# Altium integrated library Maxim Analog Filters.IntLib: 555 symbols (part 17 of 26)
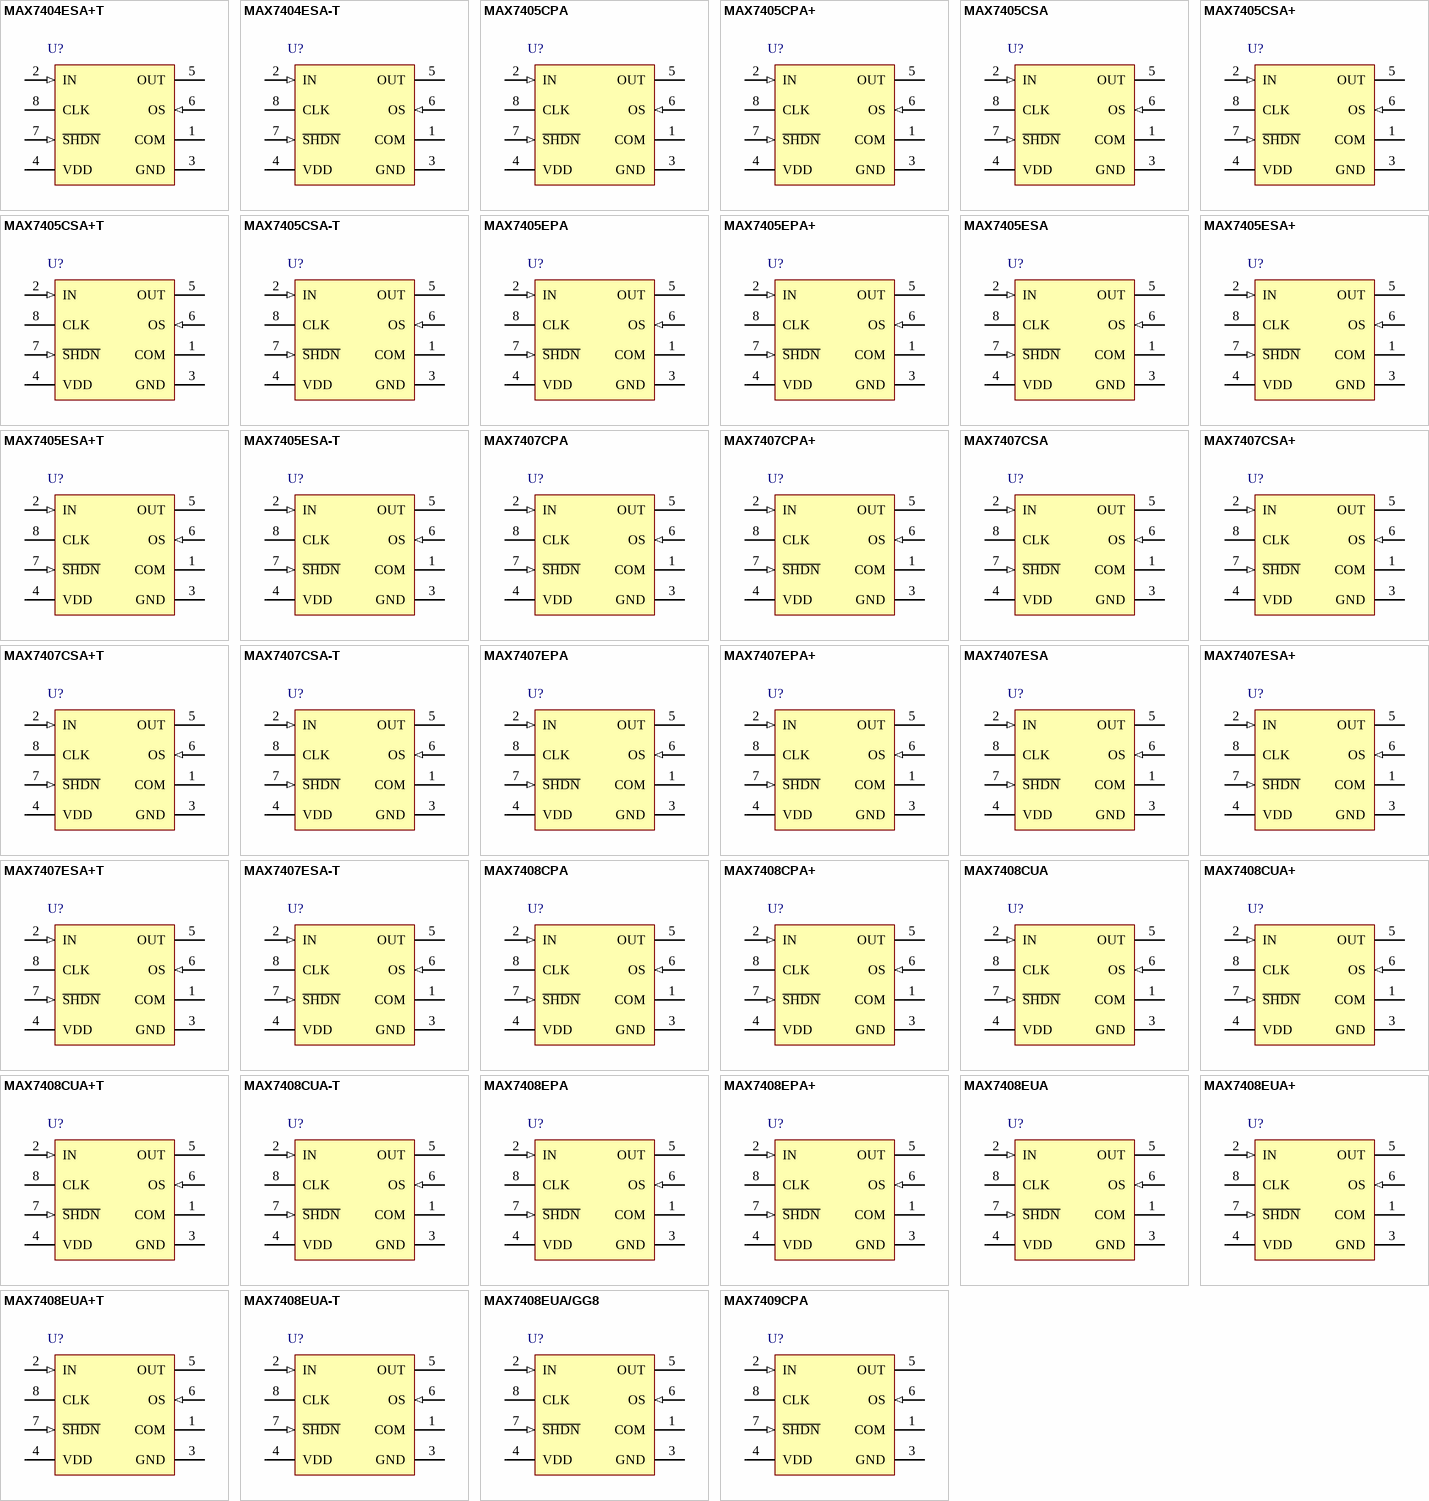
[diagram p33: symbols MAX7404ESA+T to MAX7409CPA]

## MAX7405ESA
designator U?
8th-Order Switched Capacitor Lowpass Filter, Bessel, 3 V, -40 to 85 degC, 8-Pin SOIC (S8-5); Generic Part Number: MAX7405; PartNumber: MAX7405ESA; Filter Sections: 1; Order Per Filter Section: 8; Program Method: Clock; DatasheetVersion: Rev. 1; PackageVersion: Rev. D, 10/2012; PackageReference: S8-5; PackageDescription: 8-Pin Small-Outline IC, Narrow (0.15in) (S8-5), Body 4.90 x 3.90 mm, Pitch 1.27 mm; Supplier 1: Mouser; Supplier Part Number 1: N/A; Filter Characteristic: Bessel; Filter Class: Switched Cap; Filter Type: Lowpass; Mounting Technology: Surface Mount; Code_JEDEC: MS012; ComponentLink1Description: Manufacturer URL; ComponentLink1URL: http://www.maximintegrated.com/; ComponentLink2Description: Datasheet; ComponentLink2URL: http://datasheets.maximintegrated.com/en/ds/MAX7401-MAX7405.pdf; ComponentLink3Description: Package Specification; ComponentLink3URL: http://pdfserv.maximintegrated.com/package_dwgs/21-0041.PDF
footprint MAXM-S8-5_N (SOIC, 8-Leads, Body 4.9x3.9mm, Pitch 1.27mm, IPC Medium Density)
footprint MAXM-S8-5_L (SOIC, 8-Leads, Body 4.9x3.9mm, Pitch 1.27mm, IPC High Density)
footprint MAXM-S8-5_M (SOIC, 8-Leads, Body 4.9x3.9mm, Pitch 1.27mm, IPC Low Density)
pins: 1 COM "Common Input. Biased internally at midsupply. Bypass externally to GND with a 0.1uF capacitor. To override internal biasing, drive with an external supply.", 2 IN (in) "Filter Input", 3 GND (power) "Ground", 4 VDD (power) "Positive Supply Input: +5V for MAX7400/MAX7403, +3V for MAX7404/MAX7407", 5 OUT (hiz) "Filter Output", 6 OS (in) "Offset Adjust Input. To adjust output offset, bias OS externally. Connect OS to COM if no offset adjustment is needed. Refer to Offset and Common-Mode Input Adjustment section.", 7 ~{SHDN} (in) "Shutdown Input. Drive low to enable shutdown mode; drive high or connect to VDD for normal operation.", 8 CLK "Clock Input. To override the internal oscillator, connect to an external clock; otherwise, connect an external capacitor (COSC) from CLK to GND to set the internal oscillator frequency."

## MAX7405ESA+
designator U?
8th-Order Switched Capacitor Lowpass Filter, Bessel, 3 V, -40 to 85 degC, 8-Pin SOIC (S8+5), Pb-Free; Generic Part Number: MAX7405; PartNumber: MAX7405ESA+; Filter Sections: 1; Order Per Filter Section: 8; Program Method: Clock; DatasheetVersion: Rev. 1; PackageVersion: Rev. D, 10/2012; PackageReference: S8+5; PackageDescription: 8-Pin Small-Outline IC, Narrow (0.15in) (S8+5), Body 4.90 x 3.90 mm, Pitch 1.27 mm; Supplier 1: Digi-Key; Supplier Part Number 1: MAX7405ESA+-ND; Supplier 2: Mouser; Supplier Part Number 2: 700-MAX7405ESA; Filter Characteristic: Bessel; Filter Class: Switched Cap; Filter Type: Lowpass; RoHS: Pb-Free; Mounting Technology: Surface Mount; Code_JEDEC: MS012; ComponentLink1Description: Manufacturer URL; ComponentLink1URL: http://www.maximintegrated.com/; ComponentLink2Description: Datasheet; ComponentLink2URL: http://datasheets.maximintegrated.com/en/ds/MAX7401-MAX7405.pdf; ComponentLink3Description: Package Specification; ComponentLink3URL: http://pdfserv.maximintegrated.com/package_dwgs/21-0041.PDF
footprint MAXM-S8+5_N (SOIC, 8-Leads, Body 4.90x3.90mm, Pitch 1.27mm, IPC Medium Density)
footprint MAXM-S8+5_L (SOIC, 8-Leads, Body 4.90x3.90mm, Pitch 1.27mm, IPC High Density)
footprint MAXM-S8+5_M (SOIC, 8-Leads, Body 4.90x3.90mm, Pitch 1.27mm, IPC Low Density)
pins: 1 COM "Common Input. Biased internally at midsupply. Bypass externally to GND with a 0.1uF capacitor. To override internal biasing, drive with an external supply.", 2 IN (in) "Filter Input", 3 GND (power) "Ground", 4 VDD (power) "Positive Supply Input: +5V for MAX7400/MAX7403, +3V for MAX7404/MAX7407", 5 OUT (hiz) "Filter Output", 6 OS (in) "Offset Adjust Input. To adjust output offset, bias OS externally. Connect OS to COM if no offset adjustment is needed. Refer to Offset and Common-Mode Input Adjustment section.", 7 ~{SHDN} (in) "Shutdown Input. Drive low to enable shutdown mode; drive high or connect to VDD for normal operation.", 8 CLK "Clock Input. To override the internal oscillator, connect to an external clock; otherwise, connect an external capacitor (COSC) from CLK to GND to set the internal oscillator frequency."

## MAX7405ESA+T
designator U?
8th-Order Switched Capacitor Lowpass Filter, Bessel, 3 V, -40 to 85 degC, 8-Pin SOIC (S8+5), Pb-Free, Tape and Reel; Generic Part Number: MAX7405; PartNumber: MAX7405ESA+T; Filter Sections: 1; Order Per Filter Section: 8; Program Method: Clock; DatasheetVersion: Rev. 1; PackageVersion: Rev. D, 10/2012; PackageReference: S8+5; PackageDescription: 8-Pin Small-Outline IC, Narrow (0.15in) (S8+5), Body 4.90 x 3.90 mm, Pitch 1.27 mm; Supplier 1: Digi-Key; Supplier Part Number 1: MAX7405ESA+T-ND; Supplier 2: Mouser; Supplier Part Number 2: 700-MAX7405ESAT; Filter Characteristic: Bessel; Filter Class: Switched Cap; Filter Type: Lowpass; Packing: Tape and Reel; RoHS: Pb-Free; Mounting Technology: Surface Mount; Code_JEDEC: MS012; ComponentLink1Description: Manufacturer URL; ComponentLink1URL: http://www.maximintegrated.com/; ComponentLink2Description: Datasheet; ComponentLink2URL: http://datasheets.maximintegrated.com/en/ds/MAX7401-MAX7405.pdf; ComponentLink3Description: Package Specification; ComponentLink3URL: http://pdfserv.maximintegrated.com/package_dwgs/21-0041.PDF
footprint MAXM-S8+5_N (SOIC, 8-Leads, Body 4.90x3.90mm, Pitch 1.27mm, IPC Medium Density)
footprint MAXM-S8+5_L (SOIC, 8-Leads, Body 4.90x3.90mm, Pitch 1.27mm, IPC High Density)
footprint MAXM-S8+5_M (SOIC, 8-Leads, Body 4.90x3.90mm, Pitch 1.27mm, IPC Low Density)
pins: 1 COM "Common Input. Biased internally at midsupply. Bypass externally to GND with a 0.1uF capacitor. To override internal biasing, drive with an external supply.", 2 IN (in) "Filter Input", 3 GND (power) "Ground", 4 VDD (power) "Positive Supply Input: +5V for MAX7400/MAX7403, +3V for MAX7404/MAX7407", 5 OUT (hiz) "Filter Output", 6 OS (in) "Offset Adjust Input. To adjust output offset, bias OS externally. Connect OS to COM if no offset adjustment is needed. Refer to Offset and Common-Mode Input Adjustment section.", 7 ~{SHDN} (in) "Shutdown Input. Drive low to enable shutdown mode; drive high or connect to VDD for normal operation.", 8 CLK "Clock Input. To override the internal oscillator, connect to an external clock; otherwise, connect an external capacitor (COSC) from CLK to GND to set the internal oscillator frequency."

## MAX7405ESA-T
designator U?
8th-Order Switched Capacitor Lowpass Filter, Bessel, 3 V, -40 to 85 degC, 8-Pin SOIC (S8-5), Tape and Reel; Generic Part Number: MAX7405; PartNumber: MAX7405ESA-T; Filter Sections: 1; Order Per Filter Section: 8; Program Method: Clock; DatasheetVersion: Rev. 1; PackageVersion: Rev. D, 10/2012; PackageReference: S8-5; PackageDescription: 8-Pin Small-Outline IC, Narrow (0.15in) (S8-5), Body 4.90 x 3.90 mm, Pitch 1.27 mm; Supplier 1: Mouser; Supplier Part Number 1: N/A; Filter Characteristic: Bessel; Filter Class: Switched Cap; Filter Type: Lowpass; Packing: Tape and Reel; Mounting Technology: Surface Mount; Code_JEDEC: MS012; ComponentLink1Description: Manufacturer URL; ComponentLink1URL: http://www.maximintegrated.com/; ComponentLink2Description: Datasheet; ComponentLink2URL: http://datasheets.maximintegrated.com/en/ds/MAX7401-MAX7405.pdf; ComponentLink3Description: Package Specification; ComponentLink3URL: http://pdfserv.maximintegrated.com/package_dwgs/21-0041.PDF
footprint MAXM-S8-5_N (SOIC, 8-Leads, Body 4.9x3.9mm, Pitch 1.27mm, IPC Medium Density)
footprint MAXM-S8-5_L (SOIC, 8-Leads, Body 4.9x3.9mm, Pitch 1.27mm, IPC High Density)
footprint MAXM-S8-5_M (SOIC, 8-Leads, Body 4.9x3.9mm, Pitch 1.27mm, IPC Low Density)
pins: 1 COM "Common Input. Biased internally at midsupply. Bypass externally to GND with a 0.1uF capacitor. To override internal biasing, drive with an external supply.", 2 IN (in) "Filter Input", 3 GND (power) "Ground", 4 VDD (power) "Positive Supply Input: +5V for MAX7400/MAX7403, +3V for MAX7404/MAX7407", 5 OUT (hiz) "Filter Output", 6 OS (in) "Offset Adjust Input. To adjust output offset, bias OS externally. Connect OS to COM if no offset adjustment is needed. Refer to Offset and Common-Mode Input Adjustment section.", 7 ~{SHDN} (in) "Shutdown Input. Drive low to enable shutdown mode; drive high or connect to VDD for normal operation.", 8 CLK "Clock Input. To override the internal oscillator, connect to an external clock; otherwise, connect an external capacitor (COSC) from CLK to GND to set the internal oscillator frequency."

## MAX7407CPA
designator U?
8th-Order Switched Capacitor Lowpass Filter, Elliptic, 3 V, 0 to 70 degC, 8-Pin DIP (P8-2); Generic Part Number: MAX7407; PartNumber: MAX7407CPA; Filter Sections: 1; Order Per Filter Section: 8; Program Method: Clock; DatasheetVersion: Rev. 2; PackageVersion: Rev. E, 04/2011; PackageReference: P8-2; PackageDescription: 8-Pin Plastic Dual-In-Line, Narrow (0.3in) (P8-2), Body 9.375 x 6.985 mm, Pitch 2.54 mm; Supplier 1: Mouser; Supplier Part Number 1: N/A; Filter Characteristic: Elliptic; Filter Class: Switched Cap; Filter Type: Lowpass; Mounting Technology: Through Hole; Code_JEDEC: MS001-XX; ComponentLink1Description: Manufacturer URL; ComponentLink1URL: http://www.maximintegrated.com/; ComponentLink2Description: Datasheet; ComponentLink2URL: http://datasheets.maximintegrated.com/en/ds/MAX7400-MAX7407.pdf; ComponentLink3Description: Package Specification; ComponentLink3URL: http://pdfserv.maximintegrated.com/package_dwgs/21-0043.PDF
footprint MAXM-P8-2 (DIP, 8-Leads, Body 9.375x6.985mm, Pitch 2.54mm)
pins: 1 COM "Common Input. Biased internally at midsupply. Bypass externally to GND with a 0.1uF capacitor. To override internal biasing, drive with an external supply.", 2 IN (in) "Filter Input", 3 GND (power) "Ground", 4 VDD (power) "Positive Supply Input: +5V for MAX7400/MAX7403, +3V for MAX7404/MAX7407", 5 OUT (hiz) "Filter Output", 6 OS (in) "Offset Adjust Input. To adjust output offset, bias OS externally. Connect OS to COM if no offset adjustment is needed. Refer to Offset and Common-Mode Input Adjustment section.", 7 ~{SHDN} (in) "Shutdown Input. Drive low to enable shutdown mode; drive high or connect to VDD for normal operation.", 8 CLK "Clock Input. To override the internal oscillator, connect to an external clock; otherwise, connect an external capacitor (COSC) from CLK to GND to set the internal oscillator frequency."

## MAX7407CPA+
designator U?
8th-Order Switched Capacitor Lowpass Filter, Elliptic, 3 V, 0 to 70 degC, 8-Pin DIP (P8+2), Pb-Free; Generic Part Number: MAX7407; PartNumber: MAX7407CPA+; Filter Sections: 1; Order Per Filter Section: 8; Program Method: Clock; DatasheetVersion: Rev. 2; PackageVersion: Rev. E, 04/2011; PackageReference: P8+2; PackageDescription: 8-Pin Plastic Dual-In-Line, Narrow (0.3in) (P8+2), Body 9.375 x 6.985 mm, Pitch 2.54 mm; Supplier 1: Digi-Key; Supplier Part Number 1: MAX7407CPA+-ND; Supplier 2: Mouser; Supplier Part Number 2: 700-MAX7407CPA; Filter Characteristic: Elliptic; Filter Class: Switched Cap; Filter Type: Lowpass; RoHS: Pb-Free; Mounting Technology: Through Hole; Code_JEDEC: MS001-XX; ComponentLink1Description: Manufacturer URL; ComponentLink1URL: http://www.maximintegrated.com/; ComponentLink2Description: Datasheet; ComponentLink2URL: http://datasheets.maximintegrated.com/en/ds/MAX7400-MAX7407.pdf; ComponentLink3Description: Package Specification; ComponentLink3URL: http://pdfserv.maximintegrated.com/package_dwgs/21-0043.PDF
footprint MAXM-P8+2 (DIP, 8-Leads, Body 9.375x6.985mm, Pitch 2.54mm)
pins: 1 COM "Common Input. Biased internally at midsupply. Bypass externally to GND with a 0.1uF capacitor. To override internal biasing, drive with an external supply.", 2 IN (in) "Filter Input", 3 GND (power) "Ground", 4 VDD (power) "Positive Supply Input: +5V for MAX7400/MAX7403, +3V for MAX7404/MAX7407", 5 OUT (hiz) "Filter Output", 6 OS (in) "Offset Adjust Input. To adjust output offset, bias OS externally. Connect OS to COM if no offset adjustment is needed. Refer to Offset and Common-Mode Input Adjustment section.", 7 ~{SHDN} (in) "Shutdown Input. Drive low to enable shutdown mode; drive high or connect to VDD for normal operation.", 8 CLK "Clock Input. To override the internal oscillator, connect to an external clock; otherwise, connect an external capacitor (COSC) from CLK to GND to set the internal oscillator frequency."

## MAX7407CSA
designator U?
8th-Order Switched Capacitor Lowpass Filter, Elliptic, 3 V, 0 to 70 degC, 8-Pin SOIC (S8-5); Generic Part Number: MAX7407; PartNumber: MAX7407CSA; Filter Sections: 1; Order Per Filter Section: 8; Program Method: Clock; DatasheetVersion: Rev. 2; PackageVersion: Rev. D, 10/2012; PackageReference: S8-5; PackageDescription: 8-Pin Small-Outline IC, Narrow (0.15in) (S8-5), Body 4.90 x 3.90 mm, Pitch 1.27 mm; Supplier 1: Mouser; Supplier Part Number 1: N/A; Filter Characteristic: Elliptic; Filter Class: Switched Cap; Filter Type: Lowpass; Mounting Technology: Surface Mount; Code_JEDEC: MS012; ComponentLink1Description: Manufacturer URL; ComponentLink1URL: http://www.maximintegrated.com/; ComponentLink2Description: Datasheet; ComponentLink2URL: http://datasheets.maximintegrated.com/en/ds/MAX7400-MAX7407.pdf; ComponentLink3Description: Package Specification; ComponentLink3URL: http://pdfserv.maximintegrated.com/package_dwgs/21-0041.PDF
footprint MAXM-S8-5_N (SOIC, 8-Leads, Body 4.9x3.9mm, Pitch 1.27mm, IPC Medium Density)
footprint MAXM-S8-5_L (SOIC, 8-Leads, Body 4.9x3.9mm, Pitch 1.27mm, IPC High Density)
footprint MAXM-S8-5_M (SOIC, 8-Leads, Body 4.9x3.9mm, Pitch 1.27mm, IPC Low Density)
pins: 1 COM "Common Input. Biased internally at midsupply. Bypass externally to GND with a 0.1uF capacitor. To override internal biasing, drive with an external supply.", 2 IN (in) "Filter Input", 3 GND (power) "Ground", 4 VDD (power) "Positive Supply Input: +5V for MAX7400/MAX7403, +3V for MAX7404/MAX7407", 5 OUT (hiz) "Filter Output", 6 OS (in) "Offset Adjust Input. To adjust output offset, bias OS externally. Connect OS to COM if no offset adjustment is needed. Refer to Offset and Common-Mode Input Adjustment section.", 7 ~{SHDN} (in) "Shutdown Input. Drive low to enable shutdown mode; drive high or connect to VDD for normal operation.", 8 CLK "Clock Input. To override the internal oscillator, connect to an external clock; otherwise, connect an external capacitor (COSC) from CLK to GND to set the internal oscillator frequency."

## MAX7407CSA+
designator U?
8th-Order Switched Capacitor Lowpass Filter, Elliptic, 3 V, 0 to 70 degC, 8-Pin SOIC (S8+5), Pb-Free; Generic Part Number: MAX7407; PartNumber: MAX7407CSA+; Filter Sections: 1; Order Per Filter Section: 8; Program Method: Clock; DatasheetVersion: Rev. 2; PackageVersion: Rev. D, 10/2012; PackageReference: S8+5; PackageDescription: 8-Pin Small-Outline IC, Narrow (0.15in) (S8+5), Body 4.90 x 3.90 mm, Pitch 1.27 mm; Supplier 1: Digi-Key; Supplier Part Number 1: MAX7407CSA+-ND; Supplier 2: Mouser; Supplier Part Number 2: 700-MAX7407CSA; Filter Characteristic: Elliptic; Filter Class: Switched Cap; Filter Type: Lowpass; RoHS: Pb-Free; Mounting Technology: Surface Mount; Code_JEDEC: MS012; ComponentLink1Description: Manufacturer URL; ComponentLink1URL: http://www.maximintegrated.com/; ComponentLink2Description: Datasheet; ComponentLink2URL: http://datasheets.maximintegrated.com/en/ds/MAX7400-MAX7407.pdf; ComponentLink3Description: Package Specification; ComponentLink3URL: http://pdfserv.maximintegrated.com/package_dwgs/21-0041.PDF
footprint MAXM-S8+5_N (SOIC, 8-Leads, Body 4.90x3.90mm, Pitch 1.27mm, IPC Medium Density)
footprint MAXM-S8+5_L (SOIC, 8-Leads, Body 4.90x3.90mm, Pitch 1.27mm, IPC High Density)
footprint MAXM-S8+5_M (SOIC, 8-Leads, Body 4.90x3.90mm, Pitch 1.27mm, IPC Low Density)
pins: 1 COM "Common Input. Biased internally at midsupply. Bypass externally to GND with a 0.1uF capacitor. To override internal biasing, drive with an external supply.", 2 IN (in) "Filter Input", 3 GND (power) "Ground", 4 VDD (power) "Positive Supply Input: +5V for MAX7400/MAX7403, +3V for MAX7404/MAX7407", 5 OUT (hiz) "Filter Output", 6 OS (in) "Offset Adjust Input. To adjust output offset, bias OS externally. Connect OS to COM if no offset adjustment is needed. Refer to Offset and Common-Mode Input Adjustment section.", 7 ~{SHDN} (in) "Shutdown Input. Drive low to enable shutdown mode; drive high or connect to VDD for normal operation.", 8 CLK "Clock Input. To override the internal oscillator, connect to an external clock; otherwise, connect an external capacitor (COSC) from CLK to GND to set the internal oscillator frequency."

## MAX7407CSA+T
designator U?
8th-Order Switched Capacitor Lowpass Filter, Elliptic, 3 V, 0 to 70 degC, 8-Pin SOIC (S8+5), Pb-Free, Tape and Reel; Generic Part Number: MAX7407; PartNumber: MAX7407CSA+T; Filter Sections: 1; Order Per Filter Section: 8; Program Method: Clock; DatasheetVersion: Rev. 2; PackageVersion: Rev. D, 10/2012; PackageReference: S8+5; PackageDescription: 8-Pin Small-Outline IC, Narrow (0.15in) (S8+5), Body 4.90 x 3.90 mm, Pitch 1.27 mm; Supplier 1: Digi-Key; Supplier Part Number 1: MAX7407CSA+T-ND; Supplier 2: Mouser; Supplier Part Number 2: 700-MAX7407CSAT; Filter Characteristic: Elliptic; Filter Class: Switched Cap; Filter Type: Lowpass; Packing: Tape and Reel; RoHS: Pb-Free; Mounting Technology: Surface Mount; Code_JEDEC: MS012; ComponentLink1Description: Manufacturer URL; ComponentLink1URL: http://www.maximintegrated.com/; ComponentLink2Description: Datasheet; ComponentLink2URL: http://datasheets.maximintegrated.com/en/ds/MAX7400-MAX7407.pdf; ComponentLink3Description: Package Specification; ComponentLink3URL: http://pdfserv.maximintegrated.com/package_dwgs/21-0041.PDF
footprint MAXM-S8+5_N (SOIC, 8-Leads, Body 4.90x3.90mm, Pitch 1.27mm, IPC Medium Density)
footprint MAXM-S8+5_L (SOIC, 8-Leads, Body 4.90x3.90mm, Pitch 1.27mm, IPC High Density)
footprint MAXM-S8+5_M (SOIC, 8-Leads, Body 4.90x3.90mm, Pitch 1.27mm, IPC Low Density)
pins: 1 COM "Common Input. Biased internally at midsupply. Bypass externally to GND with a 0.1uF capacitor. To override internal biasing, drive with an external supply.", 2 IN (in) "Filter Input", 3 GND (power) "Ground", 4 VDD (power) "Positive Supply Input: +5V for MAX7400/MAX7403, +3V for MAX7404/MAX7407", 5 OUT (hiz) "Filter Output", 6 OS (in) "Offset Adjust Input. To adjust output offset, bias OS externally. Connect OS to COM if no offset adjustment is needed. Refer to Offset and Common-Mode Input Adjustment section.", 7 ~{SHDN} (in) "Shutdown Input. Drive low to enable shutdown mode; drive high or connect to VDD for normal operation.", 8 CLK "Clock Input. To override the internal oscillator, connect to an external clock; otherwise, connect an external capacitor (COSC) from CLK to GND to set the internal oscillator frequency."

## MAX7407CSA-T
designator U?
8th-Order Switched Capacitor Lowpass Filter, Elliptic, 3 V, 0 to 70 degC, 8-Pin SOIC (S8-5), Tape and Reel; Generic Part Number: MAX7407; PartNumber: MAX7407CSA-T; Filter Sections: 1; Order Per Filter Section: 8; Program Method: Clock; DatasheetVersion: Rev. 2; PackageVersion: Rev. D, 10/2012; PackageReference: S8-5; PackageDescription: 8-Pin Small-Outline IC, Narrow (0.15in) (S8-5), Body 4.90 x 3.90 mm, Pitch 1.27 mm; Supplier 1: Mouser; Supplier Part Number 1: N/A; Filter Characteristic: Elliptic; Filter Class: Switched Cap; Filter Type: Lowpass; Packing: Tape and Reel; Mounting Technology: Surface Mount; Code_JEDEC: MS012; ComponentLink1Description: Manufacturer URL; ComponentLink1URL: http://www.maximintegrated.com/; ComponentLink2Description: Datasheet; ComponentLink2URL: http://datasheets.maximintegrated.com/en/ds/MAX7400-MAX7407.pdf; ComponentLink3Description: Package Specification; ComponentLink3URL: http://pdfserv.maximintegrated.com/package_dwgs/21-0041.PDF
footprint MAXM-S8-5_N (SOIC, 8-Leads, Body 4.9x3.9mm, Pitch 1.27mm, IPC Medium Density)
footprint MAXM-S8-5_L (SOIC, 8-Leads, Body 4.9x3.9mm, Pitch 1.27mm, IPC High Density)
footprint MAXM-S8-5_M (SOIC, 8-Leads, Body 4.9x3.9mm, Pitch 1.27mm, IPC Low Density)
pins: 1 COM "Common Input. Biased internally at midsupply. Bypass externally to GND with a 0.1uF capacitor. To override internal biasing, drive with an external supply.", 2 IN (in) "Filter Input", 3 GND (power) "Ground", 4 VDD (power) "Positive Supply Input: +5V for MAX7400/MAX7403, +3V for MAX7404/MAX7407", 5 OUT (hiz) "Filter Output", 6 OS (in) "Offset Adjust Input. To adjust output offset, bias OS externally. Connect OS to COM if no offset adjustment is needed. Refer to Offset and Common-Mode Input Adjustment section.", 7 ~{SHDN} (in) "Shutdown Input. Drive low to enable shutdown mode; drive high or connect to VDD for normal operation.", 8 CLK "Clock Input. To override the internal oscillator, connect to an external clock; otherwise, connect an external capacitor (COSC) from CLK to GND to set the internal oscillator frequency."

## MAX7407EPA
designator U?
8th-Order Switched Capacitor Lowpass Filter, Elliptic, 3 V, -40 to 85 degC, 8-Pin DIP (P8-2); Generic Part Number: MAX7407; PartNumber: MAX7407EPA; Filter Sections: 1; Order Per Filter Section: 8; Program Method: Clock; DatasheetVersion: Rev. 2; PackageVersion: Rev. E, 04/2011; PackageReference: P8-2; PackageDescription: 8-Pin Plastic Dual-In-Line, Narrow (0.3in) (P8-2), Body 9.375 x 6.985 mm, Pitch 2.54 mm; Supplier 1: Mouser; Supplier Part Number 1: N/A; Filter Characteristic: Elliptic; Filter Class: Switched Cap; Filter Type: Lowpass; Mounting Technology: Through Hole; Code_JEDEC: MS001-XX; ComponentLink1Description: Manufacturer URL; ComponentLink1URL: http://www.maximintegrated.com/; ComponentLink2Description: Datasheet; ComponentLink2URL: http://datasheets.maximintegrated.com/en/ds/MAX7400-MAX7407.pdf; ComponentLink3Description: Package Specification; ComponentLink3URL: http://pdfserv.maximintegrated.com/package_dwgs/21-0043.PDF
footprint MAXM-P8-2 (DIP, 8-Leads, Body 9.375x6.985mm, Pitch 2.54mm)
pins: 1 COM "Common Input. Biased internally at midsupply. Bypass externally to GND with a 0.1uF capacitor. To override internal biasing, drive with an external supply.", 2 IN (in) "Filter Input", 3 GND (power) "Ground", 4 VDD (power) "Positive Supply Input: +5V for MAX7400/MAX7403, +3V for MAX7404/MAX7407", 5 OUT (hiz) "Filter Output", 6 OS (in) "Offset Adjust Input. To adjust output offset, bias OS externally. Connect OS to COM if no offset adjustment is needed. Refer to Offset and Common-Mode Input Adjustment section.", 7 ~{SHDN} (in) "Shutdown Input. Drive low to enable shutdown mode; drive high or connect to VDD for normal operation.", 8 CLK "Clock Input. To override the internal oscillator, connect to an external clock; otherwise, connect an external capacitor (COSC) from CLK to GND to set the internal oscillator frequency."

## MAX7407EPA+
designator U?
8th-Order Switched Capacitor Lowpass Filter, Elliptic, 3 V, -40 to 85 degC, 8-Pin DIP (P8+2), Pb-Free; Generic Part Number: MAX7407; PartNumber: MAX7407EPA+; Filter Sections: 1; Order Per Filter Section: 8; Program Method: Clock; DatasheetVersion: Rev. 2; PackageVersion: Rev. E, 04/2011; PackageReference: P8+2; PackageDescription: 8-Pin Plastic Dual-In-Line, Narrow (0.3in) (P8+2), Body 9.375 x 6.985 mm, Pitch 2.54 mm; Supplier 1: Digi-Key; Supplier Part Number 1: MAX7407EPA+-ND; Supplier 2: Mouser; Supplier Part Number 2: 700-MAX7407EPA; Filter Characteristic: Elliptic; Filter Class: Switched Cap; Filter Type: Lowpass; RoHS: Pb-Free; Mounting Technology: Through Hole; Code_JEDEC: MS001-XX; ComponentLink1Description: Manufacturer URL; ComponentLink1URL: http://www.maximintegrated.com/; ComponentLink2Description: Datasheet; ComponentLink2URL: http://datasheets.maximintegrated.com/en/ds/MAX7400-MAX7407.pdf; ComponentLink3Description: Package Specification; ComponentLink3URL: http://pdfserv.maximintegrated.com/package_dwgs/21-0043.PDF
footprint MAXM-P8+2 (DIP, 8-Leads, Body 9.375x6.985mm, Pitch 2.54mm)
pins: 1 COM "Common Input. Biased internally at midsupply. Bypass externally to GND with a 0.1uF capacitor. To override internal biasing, drive with an external supply.", 2 IN (in) "Filter Input", 3 GND (power) "Ground", 4 VDD (power) "Positive Supply Input: +5V for MAX7400/MAX7403, +3V for MAX7404/MAX7407", 5 OUT (hiz) "Filter Output", 6 OS (in) "Offset Adjust Input. To adjust output offset, bias OS externally. Connect OS to COM if no offset adjustment is needed. Refer to Offset and Common-Mode Input Adjustment section.", 7 ~{SHDN} (in) "Shutdown Input. Drive low to enable shutdown mode; drive high or connect to VDD for normal operation.", 8 CLK "Clock Input. To override the internal oscillator, connect to an external clock; otherwise, connect an external capacitor (COSC) from CLK to GND to set the internal oscillator frequency."

## MAX7407ESA
designator U?
8th-Order Switched Capacitor Lowpass Filter, Elliptic, 3 V, -40 to 85 degC, 8-Pin SOIC (S8-5); Generic Part Number: MAX7407; PartNumber: MAX7407ESA; Filter Sections: 1; Order Per Filter Section: 8; Program Method: Clock; DatasheetVersion: Rev. 2; PackageVersion: Rev. D, 10/2012; PackageReference: S8-5; PackageDescription: 8-Pin Small-Outline IC, Narrow (0.15in) (S8-5), Body 4.90 x 3.90 mm, Pitch 1.27 mm; Supplier 1: Mouser; Supplier Part Number 1: N/A; Filter Characteristic: Elliptic; Filter Class: Switched Cap; Filter Type: Lowpass; Mounting Technology: Surface Mount; Code_JEDEC: MS012; ComponentLink1Description: Manufacturer URL; ComponentLink1URL: http://www.maximintegrated.com/; ComponentLink2Description: Datasheet; ComponentLink2URL: http://datasheets.maximintegrated.com/en/ds/MAX7400-MAX7407.pdf; ComponentLink3Description: Package Specification; ComponentLink3URL: http://pdfserv.maximintegrated.com/package_dwgs/21-0041.PDF
footprint MAXM-S8-5_N (SOIC, 8-Leads, Body 4.9x3.9mm, Pitch 1.27mm, IPC Medium Density)
footprint MAXM-S8-5_L (SOIC, 8-Leads, Body 4.9x3.9mm, Pitch 1.27mm, IPC High Density)
footprint MAXM-S8-5_M (SOIC, 8-Leads, Body 4.9x3.9mm, Pitch 1.27mm, IPC Low Density)
pins: 1 COM "Common Input. Biased internally at midsupply. Bypass externally to GND with a 0.1uF capacitor. To override internal biasing, drive with an external supply.", 2 IN (in) "Filter Input", 3 GND (power) "Ground", 4 VDD (power) "Positive Supply Input: +5V for MAX7400/MAX7403, +3V for MAX7404/MAX7407", 5 OUT (hiz) "Filter Output", 6 OS (in) "Offset Adjust Input. To adjust output offset, bias OS externally. Connect OS to COM if no offset adjustment is needed. Refer to Offset and Common-Mode Input Adjustment section.", 7 ~{SHDN} (in) "Shutdown Input. Drive low to enable shutdown mode; drive high or connect to VDD for normal operation.", 8 CLK "Clock Input. To override the internal oscillator, connect to an external clock; otherwise, connect an external capacitor (COSC) from CLK to GND to set the internal oscillator frequency."

## MAX7407ESA+
designator U?
8th-Order Switched Capacitor Lowpass Filter, Elliptic, 3 V, -40 to 85 degC, 8-Pin SOIC (S8+5), Pb-Free; Generic Part Number: MAX7407; PartNumber: MAX7407ESA+; Filter Sections: 1; Order Per Filter Section: 8; Program Method: Clock; DatasheetVersion: Rev. 2; PackageVersion: Rev. D, 10/2012; PackageReference: S8+5; PackageDescription: 8-Pin Small-Outline IC, Narrow (0.15in) (S8+5), Body 4.90 x 3.90 mm, Pitch 1.27 mm; Supplier 1: Digi-Key; Supplier Part Number 1: MAX7407ESA+-ND; Supplier 2: Farnell; Supplier Part Number 2: 1550458; Supplier 3: Newark; Supplier Part Number 3: 26R6613; Supplier 4: Mouser; Supplier Part Number 4: 700-MAX7407ESA; Filter Characteristic: Elliptic; Filter Class: Switched Cap; Filter Type: Lowpass; RoHS: Pb-Free; Mounting Technology: Surface Mount; Code_JEDEC: MS012; ComponentLink1Description: Manufacturer URL; ComponentLink1URL: http://www.maximintegrated.com/; ComponentLink2Description: Datasheet; ComponentLink2URL: http://datasheets.maximintegrated.com/en/ds/MAX7400-MAX7407.pdf; ComponentLink3Description: Package Specification; ComponentLink3URL: http://pdfserv.maximintegrated.com/package_dwgs/21-0041.PDF
footprint MAXM-S8+5_N (SOIC, 8-Leads, Body 4.90x3.90mm, Pitch 1.27mm, IPC Medium Density)
footprint MAXM-S8+5_L (SOIC, 8-Leads, Body 4.90x3.90mm, Pitch 1.27mm, IPC High Density)
footprint MAXM-S8+5_M (SOIC, 8-Leads, Body 4.90x3.90mm, Pitch 1.27mm, IPC Low Density)
pins: 1 COM "Common Input. Biased internally at midsupply. Bypass externally to GND with a 0.1uF capacitor. To override internal biasing, drive with an external supply.", 2 IN (in) "Filter Input", 3 GND (power) "Ground", 4 VDD (power) "Positive Supply Input: +5V for MAX7400/MAX7403, +3V for MAX7404/MAX7407", 5 OUT (hiz) "Filter Output", 6 OS (in) "Offset Adjust Input. To adjust output offset, bias OS externally. Connect OS to COM if no offset adjustment is needed. Refer to Offset and Common-Mode Input Adjustment section.", 7 ~{SHDN} (in) "Shutdown Input. Drive low to enable shutdown mode; drive high or connect to VDD for normal operation.", 8 CLK "Clock Input. To override the internal oscillator, connect to an external clock; otherwise, connect an external capacitor (COSC) from CLK to GND to set the internal oscillator frequency."

## MAX7407ESA+T
designator U?
8th-Order Switched Capacitor Lowpass Filter, Elliptic, 3 V, -40 to 85 degC, 8-Pin SOIC (S8+5), Pb-Free, Tape and Reel; Generic Part Number: MAX7407; PartNumber: MAX7407ESA+T; Filter Sections: 1; Order Per Filter Section: 8; Program Method: Clock; DatasheetVersion: Rev. 2; PackageVersion: Rev. D, 10/2012; PackageReference: S8+5; PackageDescription: 8-Pin Small-Outline IC, Narrow (0.15in) (S8+5), Body 4.90 x 3.90 mm, Pitch 1.27 mm; Supplier 1: Digi-Key; Supplier Part Number 1: MAX7407ESA+T-ND; Supplier 2: Mouser; Supplier Part Number 2: 700-MAX7407ESAT; Filter Characteristic: Elliptic; Filter Class: Switched Cap; Filter Type: Lowpass; Packing: Tape and Reel; RoHS: Pb-Free; Mounting Technology: Surface Mount; Code_JEDEC: MS012; ComponentLink1Description: Manufacturer URL; ComponentLink1URL: http://www.maximintegrated.com/; ComponentLink2Description: Datasheet; ComponentLink2URL: http://datasheets.maximintegrated.com/en/ds/MAX7400-MAX7407.pdf; ComponentLink3Description: Package Specification; ComponentLink3URL: http://pdfserv.maximintegrated.com/package_dwgs/21-0041.PDF
footprint MAXM-S8+5_N (SOIC, 8-Leads, Body 4.90x3.90mm, Pitch 1.27mm, IPC Medium Density)
footprint MAXM-S8+5_L (SOIC, 8-Leads, Body 4.90x3.90mm, Pitch 1.27mm, IPC High Density)
footprint MAXM-S8+5_M (SOIC, 8-Leads, Body 4.90x3.90mm, Pitch 1.27mm, IPC Low Density)
pins: 1 COM "Common Input. Biased internally at midsupply. Bypass externally to GND with a 0.1uF capacitor. To override internal biasing, drive with an external supply.", 2 IN (in) "Filter Input", 3 GND (power) "Ground", 4 VDD (power) "Positive Supply Input: +5V for MAX7400/MAX7403, +3V for MAX7404/MAX7407", 5 OUT (hiz) "Filter Output", 6 OS (in) "Offset Adjust Input. To adjust output offset, bias OS externally. Connect OS to COM if no offset adjustment is needed. Refer to Offset and Common-Mode Input Adjustment section.", 7 ~{SHDN} (in) "Shutdown Input. Drive low to enable shutdown mode; drive high or connect to VDD for normal operation.", 8 CLK "Clock Input. To override the internal oscillator, connect to an external clock; otherwise, connect an external capacitor (COSC) from CLK to GND to set the internal oscillator frequency."

## MAX7407ESA-T
designator U?
8th-Order Switched Capacitor Lowpass Filter, Elliptic, 3 V, -40 to 85 degC, 8-Pin SOIC (S8-5), Tape and Reel; Generic Part Number: MAX7407; PartNumber: MAX7407ESA-T; Filter Sections: 1; Order Per Filter Section: 8; Program Method: Clock; DatasheetVersion: Rev. 2; PackageVersion: Rev. D, 10/2012; PackageReference: S8-5; PackageDescription: 8-Pin Small-Outline IC, Narrow (0.15in) (S8-5), Body 4.90 x 3.90 mm, Pitch 1.27 mm; Supplier 1: Mouser; Supplier Part Number 1: N/A; Filter Characteristic: Elliptic; Filter Class: Switched Cap; Filter Type: Lowpass; Packing: Tape and Reel; Mounting Technology: Surface Mount; Code_JEDEC: MS012; ComponentLink1Description: Manufacturer URL; ComponentLink1URL: http://www.maximintegrated.com/; ComponentLink2Description: Datasheet; ComponentLink2URL: http://datasheets.maximintegrated.com/en/ds/MAX7400-MAX7407.pdf; ComponentLink3Description: Package Specification; ComponentLink3URL: http://pdfserv.maximintegrated.com/package_dwgs/21-0041.PDF
footprint MAXM-S8-5_N (SOIC, 8-Leads, Body 4.9x3.9mm, Pitch 1.27mm, IPC Medium Density)
footprint MAXM-S8-5_L (SOIC, 8-Leads, Body 4.9x3.9mm, Pitch 1.27mm, IPC High Density)
footprint MAXM-S8-5_M (SOIC, 8-Leads, Body 4.9x3.9mm, Pitch 1.27mm, IPC Low Density)
pins: 1 COM "Common Input. Biased internally at midsupply. Bypass externally to GND with a 0.1uF capacitor. To override internal biasing, drive with an external supply.", 2 IN (in) "Filter Input", 3 GND (power) "Ground", 4 VDD (power) "Positive Supply Input: +5V for MAX7400/MAX7403, +3V for MAX7404/MAX7407", 5 OUT (hiz) "Filter Output", 6 OS (in) "Offset Adjust Input. To adjust output offset, bias OS externally. Connect OS to COM if no offset adjustment is needed. Refer to Offset and Common-Mode Input Adjustment section.", 7 ~{SHDN} (in) "Shutdown Input. Drive low to enable shutdown mode; drive high or connect to VDD for normal operation.", 8 CLK "Clock Input. To override the internal oscillator, connect to an external clock; otherwise, connect an external capacitor (COSC) from CLK to GND to set the internal oscillator frequency."

## MAX7408CPA
designator U?
5th-Order Switched Capacitor Lowpass Filter, Elliptic, 5 V, 0 to 70 degC, 8-Pin DIP (P8-1); Generic Part Number: MAX7408; PartNumber: MAX7408CPA; Filter Sections: 1; Order Per Filter Section: 5; Program Method: Clock; DatasheetVersion: Rev. 1; PackageVersion: Rev. E, 04/2011; PackageReference: P8-1; PackageDescription: 8-Pin Plastic Dual-In-Line, Narrow (0.3in) (P8-1), Body 9.375 x 6.985 mm, Pitch 2.54 mm; Supplier 1: Mouser; Supplier Part Number 1: N/A; Filter Characteristic: Elliptic; Filter Class: Switched Cap; Filter Type: Lowpass; Mounting Technology: Through Hole; Code_JEDEC: MS001-XX; ComponentLink1Description: Manufacturer URL; ComponentLink1URL: http://www.maximintegrated.com/; ComponentLink2Description: Datasheet; ComponentLink2URL: http://datasheets.maximintegrated.com/en/ds/MAX7408-MAX7415.pdf; ComponentLink3Description: Package Specification; ComponentLink3URL: http://pdfserv.maximintegrated.com/package_dwgs/21-0043.PDF
footprint MAXM-P8-1 (DIP, 8-Leads, Body 9.375x6.985mm, Pitch 2.54mm)
pins: 1 COM "Common Input. Biased internally at midsupply. Bypass externally to GND with a 0.1uF capacitor. To override internal biasing, drive with an external supply.", 2 IN (in) "Filter Input", 3 GND (power) "Ground", 4 VDD (power) "Positive Supply Input: +5V for MAX7400/MAX7403, +3V for MAX7404/MAX7407", 5 OUT (hiz) "Filter Output", 6 OS (in) "Offset Adjust Input. To adjust output offset, bias OS externally. Connect OS to COM if no offset adjustment is needed. Refer to Offset and Common-Mode Input Adjustment section.", 7 ~{SHDN} (in) "Shutdown Input. Drive low to enable shutdown mode; drive high or connect to VDD for normal operation.", 8 CLK "Clock Input. To override the internal oscillator, connect to an external clock; otherwise, connect an external capacitor (COSC) from CLK to GND to set the internal oscillator frequency."

## MAX7408CPA+
designator U?
5th-Order Switched Capacitor Lowpass Filter, Elliptic, 5 V, 0 to 70 degC, 8-Pin DIP (P8+1), Pb-Free; Generic Part Number: MAX7408; PartNumber: MAX7408CPA+; Filter Sections: 1; Order Per Filter Section: 5; Program Method: Clock; DatasheetVersion: Rev. 1; PackageVersion: Rev. E, 04/2011; PackageReference: P8+1; PackageDescription: 8-Pin Plastic Dual-In-Line, Narrow (0.3in) (P8+1), Body 9.375 x 6.985 mm, Pitch 2.54 mm; Supplier 1: Digi-Key; Supplier Part Number 1: MAX7408CPA+-ND; Supplier 2: Mouser; Supplier Part Number 2: 700-MAX7408CPA; Filter Characteristic: Elliptic; Filter Class: Switched Cap; Filter Type: Lowpass; RoHS: Pb-Free; Mounting Technology: Through Hole; Code_JEDEC: MS001-XX; ComponentLink1Description: Manufacturer URL; ComponentLink1URL: http://www.maximintegrated.com/; ComponentLink2Description: Datasheet; ComponentLink2URL: http://datasheets.maximintegrated.com/en/ds/MAX7408-MAX7415.pdf; ComponentLink3Description: Package Specification; ComponentLink3URL: http://pdfserv.maximintegrated.com/package_dwgs/21-0043.PDF
footprint MAXM-P8+1 (DIP, 8-Leads, Body 9.375x6.985mm, Pitch 2.54mm)
pins: 1 COM "Common Input. Biased internally at midsupply. Bypass externally to GND with a 0.1uF capacitor. To override internal biasing, drive with an external supply.", 2 IN (in) "Filter Input", 3 GND (power) "Ground", 4 VDD (power) "Positive Supply Input: +5V for MAX7400/MAX7403, +3V for MAX7404/MAX7407", 5 OUT (hiz) "Filter Output", 6 OS (in) "Offset Adjust Input. To adjust output offset, bias OS externally. Connect OS to COM if no offset adjustment is needed. Refer to Offset and Common-Mode Input Adjustment section.", 7 ~{SHDN} (in) "Shutdown Input. Drive low to enable shutdown mode; drive high or connect to VDD for normal operation.", 8 CLK "Clock Input. To override the internal oscillator, connect to an external clock; otherwise, connect an external capacitor (COSC) from CLK to GND to set the internal oscillator frequency."

## MAX7408CUA
designator U?
5th-Order Switched Capacitor Lowpass Filter, Elliptic, 5 V, 0 to 70 degC, 8-Pin SOP (U8-1); Generic Part Number: MAX7408; PartNumber: MAX7408CUA; Filter Sections: 1; Order Per Filter Section: 5; Program Method: Clock; DatasheetVersion: Rev. 1; PackageVersion: Rev. L, 08/2009; PackageReference: U8-1; PackageDescription: 8-Pin Micro-MAX, Thin Shrink Small-Outline (U8-1), Body 3 x 3 mm, Pitch 0.65mm; Supplier 1: Mouser; Supplier Part Number 1: N/A; Filter Characteristic: Elliptic; Filter Class: Switched Cap; Filter Type: Lowpass; Mounting Technology: Surface Mount; Code_JEDEC: MO-187; ComponentLink1Description: Manufacturer URL; ComponentLink1URL: http://www.maximintegrated.com/; ComponentLink2Description: Datasheet; ComponentLink2URL: http://datasheets.maximintegrated.com/en/ds/MAX7408-MAX7415.pdf; ComponentLink3Description: Package Specification; ComponentLink3URL: http://pdfserv.maximintegrated.com/package_dwgs/21-0036.PDF
footprint MAXM-U8-1_N (SOP, 8-Leads, Body 3x3mm, Pitch 0.65mm, IPC Medium Density)
footprint MAXM-U8-1_L (SOP, 8-Leads, Body 3x3mm, Pitch 0.65mm, IPC High Density)
footprint MAXM-U8-1_M (SOP, 8-Leads, Body 3x3mm, Pitch 0.65mm, IPC Low Density)
pins: 1 COM "Common Input. Biased internally at midsupply. Bypass externally to GND with a 0.1uF capacitor. To override internal biasing, drive with an external supply.", 2 IN (in) "Filter Input", 3 GND (power) "Ground", 4 VDD (power) "Positive Supply Input: +5V for MAX7400/MAX7403, +3V for MAX7404/MAX7407", 5 OUT (hiz) "Filter Output", 6 OS (in) "Offset Adjust Input. To adjust output offset, bias OS externally. Connect OS to COM if no offset adjustment is needed. Refer to Offset and Common-Mode Input Adjustment section.", 7 ~{SHDN} (in) "Shutdown Input. Drive low to enable shutdown mode; drive high or connect to VDD for normal operation.", 8 CLK "Clock Input. To override the internal oscillator, connect to an external clock; otherwise, connect an external capacitor (COSC) from CLK to GND to set the internal oscillator frequency."

## MAX7408CUA+
designator U?
5th-Order Switched Capacitor Lowpass Filter, Elliptic, 5 V, 0 to 70 degC, 8-Pin SOP (U8+1), Pb-Free; Generic Part Number: MAX7408; PartNumber: MAX7408CUA+; Filter Sections: 1; Order Per Filter Section: 5; Program Method: Clock; DatasheetVersion: Rev. 1; PackageVersion: Rev. L, 08/2009; PackageReference: U8+1; PackageDescription: 8-Pin Micro-MAX, Thin Shrink Small-Outline (U8+1), Body 3 x 3 mm, Pitch 0.65 mm; Supplier 1: Digi-Key; Supplier Part Number 1: MAX7408CUA+-ND; Supplier 2: Mouser; Supplier Part Number 2: 700-MAX7408CUA; Filter Characteristic: Elliptic; Filter Class: Switched Cap; Filter Type: Lowpass; RoHS: Pb-Free; Mounting Technology: Surface Mount; Code_JEDEC: MO-187; ComponentLink1Description: Manufacturer URL; ComponentLink1URL: http://www.maximintegrated.com/; ComponentLink2Description: Datasheet; ComponentLink2URL: http://datasheets.maximintegrated.com/en/ds/MAX7408-MAX7415.pdf; ComponentLink3Description: Package Specification; ComponentLink3URL: http://pdfserv.maximintegrated.com/package_dwgs/21-0036.PDF
footprint MAXM-U8+1_N (SOP, 8-Leads, Body 3x3mm, Pitch 0.65mm, IPC Medium Density)
footprint MAXM-U8+1_L (SOP, 8-Leads, Body 3x3mm, Pitch 0.65mm, IPC High Density)
footprint MAXM-U8+1_M (SOP, 8-Leads, Body 3x3mm, Pitch 0.65mm, IPC Low Density)
pins: 1 COM "Common Input. Biased internally at midsupply. Bypass externally to GND with a 0.1uF capacitor. To override internal biasing, drive with an external supply.", 2 IN (in) "Filter Input", 3 GND (power) "Ground", 4 VDD (power) "Positive Supply Input: +5V for MAX7400/MAX7403, +3V for MAX7404/MAX7407", 5 OUT (hiz) "Filter Output", 6 OS (in) "Offset Adjust Input. To adjust output offset, bias OS externally. Connect OS to COM if no offset adjustment is needed. Refer to Offset and Common-Mode Input Adjustment section.", 7 ~{SHDN} (in) "Shutdown Input. Drive low to enable shutdown mode; drive high or connect to VDD for normal operation.", 8 CLK "Clock Input. To override the internal oscillator, connect to an external clock; otherwise, connect an external capacitor (COSC) from CLK to GND to set the internal oscillator frequency."

## MAX7408CUA+T
designator U?
5th-Order Switched Capacitor Lowpass Filter, Elliptic, 5 V, 0 to 70 degC, 8-Pin SOP (U8+1), Pb-Free, Tape and Reel; Generic Part Number: MAX7408; PartNumber: MAX7408CUA+T; Filter Sections: 1; Order Per Filter Section: 5; Program Method: Clock; DatasheetVersion: Rev. 1; PackageVersion: Rev. L, 08/2009; PackageReference: U8+1; PackageDescription: 8-Pin Micro-MAX, Thin Shrink Small-Outline (U8+1), Body 3 x 3 mm, Pitch 0.65 mm; Supplier 1: Digi-Key; Supplier Part Number 1: MAX7408CUA+T-ND; Supplier 2: Mouser; Supplier Part Number 2: 700-MAX7408CUAT; Filter Characteristic: Elliptic; Filter Class: Switched Cap; Filter Type: Lowpass; Packing: Tape and Reel; RoHS: Pb-Free; Mounting Technology: Surface Mount; Code_JEDEC: MO-187; ComponentLink1Description: Manufacturer URL; ComponentLink1URL: http://www.maximintegrated.com/; ComponentLink2Description: Datasheet; ComponentLink2URL: http://datasheets.maximintegrated.com/en/ds/MAX7408-MAX7415.pdf; ComponentLink3Description: Package Specification; ComponentLink3URL: http://pdfserv.maximintegrated.com/package_dwgs/21-0036.PDF
footprint MAXM-U8+1_N (SOP, 8-Leads, Body 3x3mm, Pitch 0.65mm, IPC Medium Density)
footprint MAXM-U8+1_L (SOP, 8-Leads, Body 3x3mm, Pitch 0.65mm, IPC High Density)
footprint MAXM-U8+1_M (SOP, 8-Leads, Body 3x3mm, Pitch 0.65mm, IPC Low Density)
pins: 1 COM "Common Input. Biased internally at midsupply. Bypass externally to GND with a 0.1uF capacitor. To override internal biasing, drive with an external supply.", 2 IN (in) "Filter Input", 3 GND (power) "Ground", 4 VDD (power) "Positive Supply Input: +5V for MAX7400/MAX7403, +3V for MAX7404/MAX7407", 5 OUT (hiz) "Filter Output", 6 OS (in) "Offset Adjust Input. To adjust output offset, bias OS externally. Connect OS to COM if no offset adjustment is needed. Refer to Offset and Common-Mode Input Adjustment section.", 7 ~{SHDN} (in) "Shutdown Input. Drive low to enable shutdown mode; drive high or connect to VDD for normal operation.", 8 CLK "Clock Input. To override the internal oscillator, connect to an external clock; otherwise, connect an external capacitor (COSC) from CLK to GND to set the internal oscillator frequency."

## MAX7408CUA-T
designator U?
5th-Order Switched Capacitor Lowpass Filter, Elliptic, 5 V, 0 to 70 degC, 8-Pin SOP (U8-1), Tape and Reel; Generic Part Number: MAX7408; PartNumber: MAX7408CUA-T; Filter Sections: 1; Order Per Filter Section: 5; Program Method: Clock; DatasheetVersion: Rev. 1; PackageVersion: Rev. L, 08/2009; PackageReference: U8-1; PackageDescription: 8-Pin Micro-MAX, Thin Shrink Small-Outline (U8-1), Body 3 x 3 mm, Pitch 0.65mm; Supplier 1: Mouser; Supplier Part Number 1: N/A; Filter Characteristic: Elliptic; Filter Class: Switched Cap; Filter Type: Lowpass; Packing: Tape and Reel; Mounting Technology: Surface Mount; Code_JEDEC: MO-187; ComponentLink1Description: Manufacturer URL; ComponentLink1URL: http://www.maximintegrated.com/; ComponentLink2Description: Datasheet; ComponentLink2URL: http://datasheets.maximintegrated.com/en/ds/MAX7408-MAX7415.pdf; ComponentLink3Description: Package Specification; ComponentLink3URL: http://pdfserv.maximintegrated.com/package_dwgs/21-0036.PDF
footprint MAXM-U8-1_N (SOP, 8-Leads, Body 3x3mm, Pitch 0.65mm, IPC Medium Density)
footprint MAXM-U8-1_L (SOP, 8-Leads, Body 3x3mm, Pitch 0.65mm, IPC High Density)
footprint MAXM-U8-1_M (SOP, 8-Leads, Body 3x3mm, Pitch 0.65mm, IPC Low Density)
pins: 1 COM "Common Input. Biased internally at midsupply. Bypass externally to GND with a 0.1uF capacitor. To override internal biasing, drive with an external supply.", 2 IN (in) "Filter Input", 3 GND (power) "Ground", 4 VDD (power) "Positive Supply Input: +5V for MAX7400/MAX7403, +3V for MAX7404/MAX7407", 5 OUT (hiz) "Filter Output", 6 OS (in) "Offset Adjust Input. To adjust output offset, bias OS externally. Connect OS to COM if no offset adjustment is needed. Refer to Offset and Common-Mode Input Adjustment section.", 7 ~{SHDN} (in) "Shutdown Input. Drive low to enable shutdown mode; drive high or connect to VDD for normal operation.", 8 CLK "Clock Input. To override the internal oscillator, connect to an external clock; otherwise, connect an external capacitor (COSC) from CLK to GND to set the internal oscillator frequency."

## MAX7408EPA
designator U?
5th-Order Switched Capacitor Lowpass Filter, Elliptic, 5 V, -40 to 85 degC, 8-Pin DIP (P8-1); Generic Part Number: MAX7408; PartNumber: MAX7408EPA; Filter Sections: 1; Order Per Filter Section: 5; Program Method: Clock; DatasheetVersion: Rev. 1; PackageVersion: Rev. E, 04/2011; PackageReference: P8-1; PackageDescription: 8-Pin Plastic Dual-In-Line, Narrow (0.3in) (P8-1), Body 9.375 x 6.985 mm, Pitch 2.54 mm; Supplier 1: Mouser; Supplier Part Number 1: N/A; Filter Characteristic: Elliptic; Filter Class: Switched Cap; Filter Type: Lowpass; Mounting Technology: Through Hole; Code_JEDEC: MS001-XX; ComponentLink1Description: Manufacturer URL; ComponentLink1URL: http://www.maximintegrated.com/; ComponentLink2Description: Datasheet; ComponentLink2URL: http://datasheets.maximintegrated.com/en/ds/MAX7408-MAX7415.pdf; ComponentLink3Description: Package Specification; ComponentLink3URL: http://pdfserv.maximintegrated.com/package_dwgs/21-0043.PDF
footprint MAXM-P8-1 (DIP, 8-Leads, Body 9.375x6.985mm, Pitch 2.54mm)
pins: 1 COM "Common Input. Biased internally at midsupply. Bypass externally to GND with a 0.1uF capacitor. To override internal biasing, drive with an external supply.", 2 IN (in) "Filter Input", 3 GND (power) "Ground", 4 VDD (power) "Positive Supply Input: +5V for MAX7400/MAX7403, +3V for MAX7404/MAX7407", 5 OUT (hiz) "Filter Output", 6 OS (in) "Offset Adjust Input. To adjust output offset, bias OS externally. Connect OS to COM if no offset adjustment is needed. Refer to Offset and Common-Mode Input Adjustment section.", 7 ~{SHDN} (in) "Shutdown Input. Drive low to enable shutdown mode; drive high or connect to VDD for normal operation.", 8 CLK "Clock Input. To override the internal oscillator, connect to an external clock; otherwise, connect an external capacitor (COSC) from CLK to GND to set the internal oscillator frequency."

## MAX7408EPA+
designator U?
5th-Order Switched Capacitor Lowpass Filter, Elliptic, 5 V, -40 to 85 degC, 8-Pin DIP (P8+1), Pb-Free; Generic Part Number: MAX7408; PartNumber: MAX7408EPA+; Filter Sections: 1; Order Per Filter Section: 5; Program Method: Clock; DatasheetVersion: Rev. 1; PackageVersion: Rev. E, 04/2011; PackageReference: P8+1; PackageDescription: 8-Pin Plastic Dual-In-Line, Narrow (0.3in) (P8+1), Body 9.375 x 6.985 mm, Pitch 2.54 mm; Supplier 1: Digi-Key; Supplier Part Number 1: MAX7408EPA+-ND; Supplier 2: Mouser; Supplier Part Number 2: 700-MAX7408EPA; Filter Characteristic: Elliptic; Filter Class: Switched Cap; Filter Type: Lowpass; RoHS: Pb-Free; Mounting Technology: Through Hole; Code_JEDEC: MS001-XX; ComponentLink1Description: Manufacturer URL; ComponentLink1URL: http://www.maximintegrated.com/; ComponentLink2Description: Datasheet; ComponentLink2URL: http://datasheets.maximintegrated.com/en/ds/MAX7408-MAX7415.pdf; ComponentLink3Description: Package Specification; ComponentLink3URL: http://pdfserv.maximintegrated.com/package_dwgs/21-0043.PDF
footprint MAXM-P8+1 (DIP, 8-Leads, Body 9.375x6.985mm, Pitch 2.54mm)
pins: 1 COM "Common Input. Biased internally at midsupply. Bypass externally to GND with a 0.1uF capacitor. To override internal biasing, drive with an external supply.", 2 IN (in) "Filter Input", 3 GND (power) "Ground", 4 VDD (power) "Positive Supply Input: +5V for MAX7400/MAX7403, +3V for MAX7404/MAX7407", 5 OUT (hiz) "Filter Output", 6 OS (in) "Offset Adjust Input. To adjust output offset, bias OS externally. Connect OS to COM if no offset adjustment is needed. Refer to Offset and Common-Mode Input Adjustment section.", 7 ~{SHDN} (in) "Shutdown Input. Drive low to enable shutdown mode; drive high or connect to VDD for normal operation.", 8 CLK "Clock Input. To override the internal oscillator, connect to an external clock; otherwise, connect an external capacitor (COSC) from CLK to GND to set the internal oscillator frequency."